# EAGLE library part MC33887 (library slom)
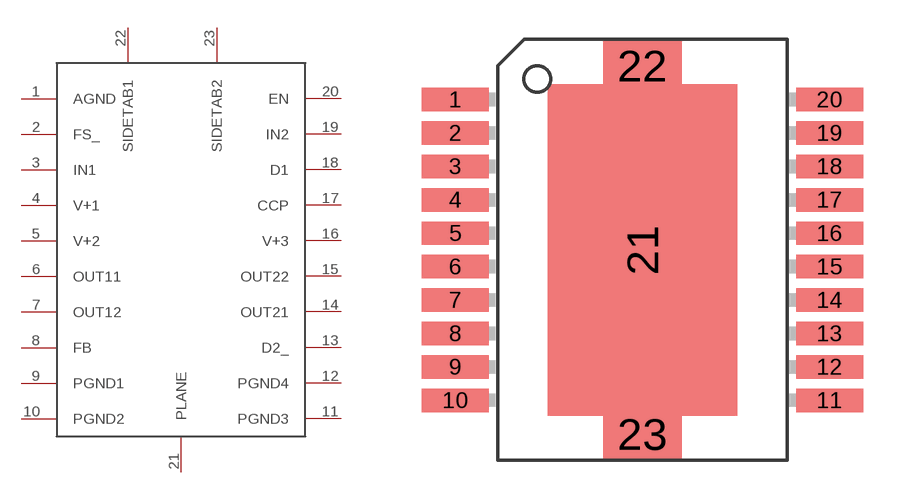
[diagram p0: symbol with the pads of HSOP-MC3387; footprint HSOP-MC3387]

Designator prefix -

## MC33887  [HSOP-MC3387]
1  AGND
2  FS_
3  IN1
4  V+1
5  V+2
6  OUT11
7  OUT12
8  FB
9  PGND1
10  PGND2
11  PGND3
12  PGND4
13  D2_
14  OUT21
15  OUT22
16  V+3
17  CCP
18  D1
19  IN2
20  EN
21  PLANE
22  SIDETAB1
23  SIDETAB2

## Footprint HSOP-MC3387 (pad centres in mm)
smd 2.54 x 0.889: 1 -7.112,5.715; 2 -7.112,4.445; 3 -7.112,3.175; 4 -7.112,1.905; 5 -7.112,0.635; 6 -7.112,-0.635; 7 -7.112,-1.905; 8 -7.112,-3.175; 9 -7.112,-4.445; 10 -7.112,-5.715; 11 7.112,-5.715; 12 7.112,-4.445; 13 7.112,-3.175; 14 7.112,-1.905; 15 7.112,-0.635; 16 7.112,0.635; 17 7.112,1.905; 18 7.112,3.175; 19 7.112,4.445; 20 7.112,5.715
smd 7.2 x 12.6: 21 0,0
smd 3 x 2: 22 0,7; 23 0,-7